# Altium schematic symbol library 电容.SchLib: 3 symbols
Pins are listed as number, name and electrical type; pins without a type are passive.

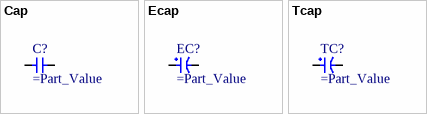
[diagram p0: symbols Cap to Tcap]

## Cap
designator C?
pins: 1, 2

## Ecap
designator EC?
pins: 1, 2

## Tcap
designator TC?
pins: 1, 2